# Altium schematic symbol library SRU8043-3R9Y.SchLib: 1 symbol
Pins are listed as number, name and electrical type; pins without a type are passive.

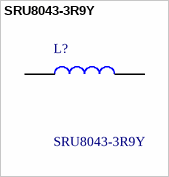
[diagram p0: symbol SRU8043-3R9Y]

## SRU8043-3R9Y
designator L?
Fixed Inductors 3.9uH 30% SMD 8043; Manufacturer_Name: Bourns; Geometry.Height: 4.6mm; Manufacturer_Part_Number: SRU8043-3R9Y; Mouser Part Number: 652-SRU8043-3R9Y; Mouser Price/Stock: https://www.mouser.co.uk/ProductDetail/Bourns/SRU8043-3R9Y?qs=3fQS%252B%2FKBkgycpx7rnbhNgQ%3D%3D; Arrow Part Number: SRU8043-3R9Y; Arrow Price/Stock: https://www.arrow.com/en/products/sru8043-3r9y/bourns?utm_currency=USD&region=nac; Datasheet Link: https://www.bourns.com/pdfs/SRU8043.pdf
footprint SRU80433R9Y
pins: 1, 2